# Altium schematic symbol library BNC5-J-P-GN-RA-BH2D.SchLib: 1 symbol
Pins are listed as number, name and electrical type; pins without a type are passive.

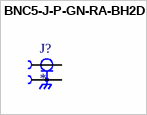
[diagram p0: symbol BNC5-J-P-GN-RA-BH2D]

## BNC5-J-P-GN-RA-BH2D
designator J?
BNC Connector Jack, Female Socket 50Ohm Panel Mount, Through Hole, Right Angle Solder; MP: BNC5-J-P-GN-RA-BH2D; MF: {'manufacturer': u'Samtec'}; Availability: Unavailable; Value: *; Price: None; Package: None
footprint SAMTEC_BNC5-J-P-GN-RA-BH2D
pins: 1, S_1 2, S_2 2, S_3 2, S_4 2